# Altium footprint library LQ-TC2&3MB-V5.PcbLib: 38 footprints (part 3 of 3)
Each footprint in its own frame and in the unit in brackets; x right, y up, seen from the top. Pads: shape width x height; smd on the part's side, far side on the other; paste and mask are expansions set on the pad; w line width, h text height; cw(c..) or ccw(c..) is an arc to the next point about the centre after c.
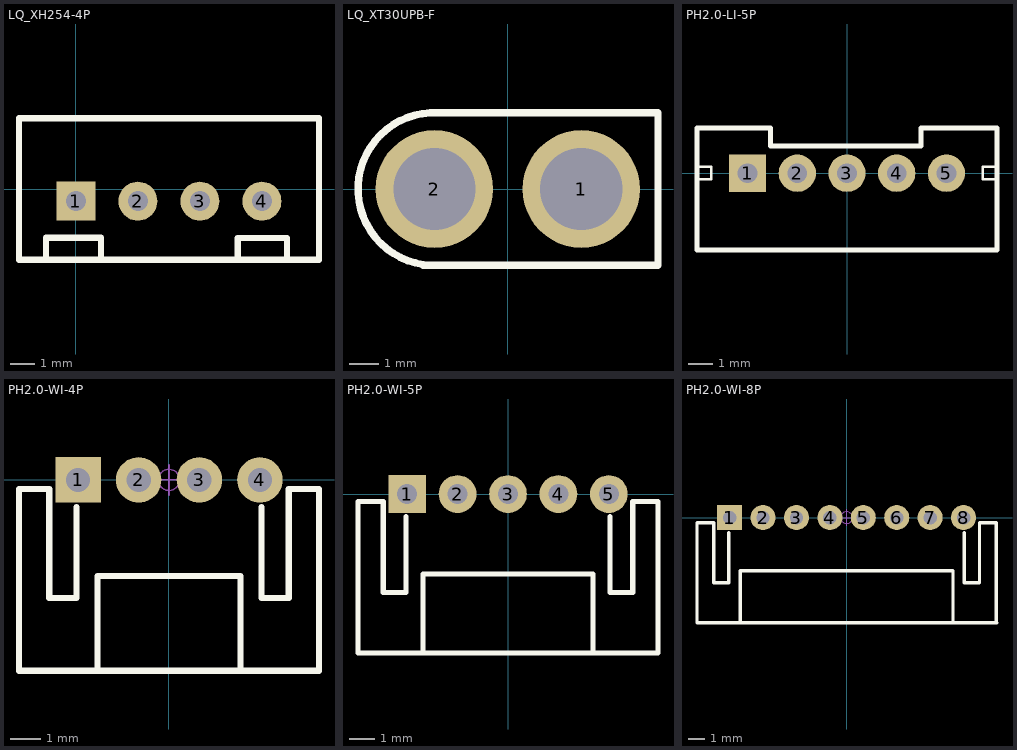
[diagram p2: the footprints below, top view; thin cyan lines are the x and y axes]

## LQ_XH254-4P [mm]
pads (4):
  rect 1.6x1.6 hole 0.82: 1(0,-0.5)
  round 1.6 hole 0.82: 2(2.54,-0.5) 3(5.08,-0.5) 4(7.62,-0.5)
Top Overlay:
  lines w0.254: -1.23,-2.9 -1.23,-2 1.03,-2 1.03,-2.9 ; 6.63,-2.9 6.63,-2.01 8.65,-2.01 8.65,-2.9 ; -2.33,-2.9 9.96,-2.9 9.96,2.9 -2.33,2.9 -2.33,-2.9
3D body "LQ_XH2.5-4.STEP": height 7, standoff -3.3, extent -2.45,-2.81 10.05,2.89

## LQ_XT30UPB-F [mm]
pads (2):
  round 4 hole 2.8: 1(2.5,0) 2(-2.5,0)
Top Overlay:
  lines w0.254: -2.885,-2.59 5.11,-2.59 5.11,2.59 -2.636,2.59 ; -2.885,-2.571 cw(c-2.5,0) -2.636,2.596
3D body "xt30upb-m.STEP": height 9.4, standoff -2, extent -4.8,-2.525 5.4,2.675

## PH2.0-LI-5P [mm] "长：11.9mm，宽：4.7mm，高：6mm"
height 10
pads (5):
  rect 1.5x1.5 hole 0.8: 1(-4,0)
  round 1.5 hole 0.8: 2(-2,0) 3(0,0) 4(2,0) 5(4,0)
Top Overlay:
  lines w0.1: -6.032,-0.246 -5.452,-0.246 -5.452,0.254 -6.032,0.254 ; 6.032,-0.246 5.452,-0.246 5.452,0.254 6.032,0.254
  lines w0.2: -6.032,1.816 -6.032,-3.084 6.032,-3.084 6.032,1.816 ; -3.08,1.816 -3.08,1.1 2.984,1.1 2.984,1.816
  lines w0.203: -6.032,1.816 -3.08,1.816 ; 2.984,1.816 6.032,1.816
Mechanical 15:
  circle w0.05: c0,0 r0.35
  lines w0.05: -0.5,0 0.5,0 ; 0,-0.5 0,0.5
3D body "PH2.0-LI-5P.STEP": height 6.01, standoff -2.99, extent -5.95,-3 5.95,1.7

## PH2.0-WI-4P [mm] "长：9.9mm，宽：6mm，高：4.7mm"
height 10
pads (4):
  rect 1.5x1.5 hole 0.8: 1(-3,0)
  round 1.5 hole 0.8: 2(-1,0) 3(1,0) 4(3,0)
Top Overlay:
  lines w0.203: -3.05,-0.9 -3.05,-3.9 -3.95,-3.9 -3.95,-3.3 -3.95,-0.3 -4,-0.3 -4.95,-0.3 -4.95,-6.3 4.95,-6.3 4.95,-0.3 4,-0.3 3.95,-0.3 3.95,-3.3 3.95,-3.9 3.05,-3.9 3.05,-0.9 ; -2.365,-6.215 -2.365,-3.175 2.365,-3.175 2.365,-6.215
Mechanical 15:
  circle w0.05: c0,0 r0.35
  lines w0.05: -0.5,0 0.5,0 ; 0,-0.5 0,0.5
3D body "PH2.0-WI-4P.STEP": height 4.75, standoff -2.65, extent -4.95,-6.3 4.95,0.3

## PH2.0-WI-5P [mm] "长：11.9mm，宽：6mm，高：4.7mm"
height 10
pads (5):
  rect 1.5x1.5 hole 0.8: 1(-4,0)
  round 1.5 hole 0.8: 2(-2,0) 3(0,0) 4(2,0) 5(4,0)
Top Overlay:
  lines w0.203: -4.05,-0.9 -4.05,-3.9 -4.95,-3.9 -4.95,-3.3 -4.95,-0.3 -5,-0.3 -5.95,-0.3 -5.95,-6.3 5.95,-6.3 5.95,-0.3 5,-0.3 4.95,-0.3 4.95,-3.3 4.95,-3.9 4.05,-3.9 4.05,-0.9 ; -3.365,-6.215 -3.365,-3.175 3.365,-3.175 3.365,-6.215
Mechanical 15:
  circle w0.05: c0,0 r0.35
  lines w0.05: -0.5,0 0.5,0 ; 0,-0.5 0,0.5
3D body "PH2.0-WI-5P.STEP": height 4.75, standoff -2.65, extent -5.95,-6.3 5.95,0.3

## PH2.0-WI-8P [mm] "长：17.9mm，宽：6mm，高：4.7mm"
height 10
pads (8):
  rect 1.5x1.5 hole 0.8: 1(-7,0)
  round 1.5 hole 0.8: 2(-5,0) 3(-3,0) 4(-1,0) 5(1,0) 6(3,0) 7(5,0) 8(7,0)
Top Overlay:
  lines w0.203: -7.05,-0.9 -7.05,-3.9 -7.95,-3.9 -7.95,-3.3 -7.95,-0.3 -8,-0.3 -8.95,-0.3 -8.95,-6.3 9,-6.3 ; -6.365,-6.215 -6.365,-3.175 6.365,-3.175 6.365,-6.215 ; 7.05,-0.9 7.05,-3.9 7.95,-3.9 7.95,-3.3 7.95,-0.3 8,-0.3 8.95,-0.3 8.95,-6.3
Mechanical 15:
  circle w0.05: c0,0 r0.35
  lines w0.05: -0.5,0 0.5,0 ; 0,-0.5 0,0.5
3D body "PH2.0-WI-8P.STEP": height 4.75, standoff -2.65, extent -8.95,-6.3 8.95,0.3